# EAGLE library part DRV8833 (library 445-eagle-lib)
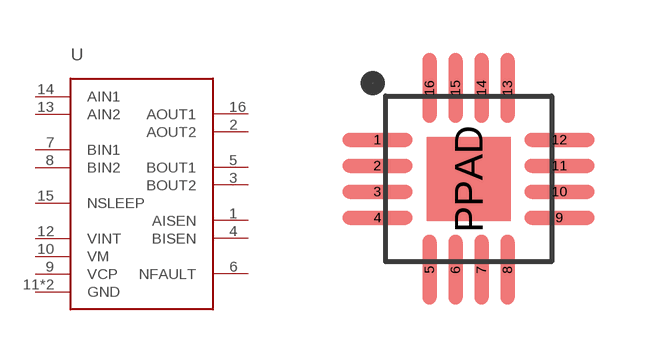
[diagram p1: symbol with the pads of WQFN-16; footprint WQFN-16]

Designator prefix -

## DRV8833  [WQFN-16]
1  AISEN
2  AOUT2
3  BOUT2
4  BISEN
5  BOUT1
6  NFAULT
7  BIN1
8  BIN2
9  VCP
10  VM
11  GND
12  VINT
13  AIN2
14  AIN1
15  NSLEEP
16  AOUT1
PPAD  GND

## Footprint WQFN-16 (pad centres in mm)
smd 1.75 x 0.35: 1 -2.275,0.975; 2 -2.275,0.325; 3 -2.275,-0.325; 4 -2.275,-0.975; 9 2.275,-0.975; 10 2.275,-0.325; 11 2.275,0.325; 12 2.275,0.975
smd 0.35 x 1.75: 5 -0.975,-2.275; 6 -0.325,-2.275; 7 0.325,-2.275; 8 0.975,-2.275; 13 0.975,2.275; 14 0.325,2.275; 15 -0.325,2.275; 16 -0.975,2.275
smd 2.1 x 2.1: PPAD 0,0